# Altium schematic symbol library Diodes.SchLib: 1 symbol
Pins are listed as number, name and electrical type; pins without a type are passive.

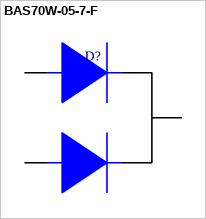
[diagram p0: symbol BAS70W-05-7-F]

## BAS70W-05-7-F
designator D?, comment Diode, Dual Schottky, SC70  (value not drawn)
BAS70W Series 70 V 70 mA Surface Mount Schottky Barrier Diode - SOT-323; Manufacturer: Diodes; Manufacturer Part Number: BAS70W-05-7-F; Element Configuration: Common Cathode; Forward Current: 70mA; Reverse Recovery Time: 5ns; Max Repetitive Reverse Voltage (Vrrm): 70V; Peak Non-Repetitive Surge Current: 100mA; Max Power Dissipation: 200mW; Forward Voltage: 1V; Max Reverse Current: 100nA; Capacitance: 2pF; Supplier 1: Digi-Key; Stock 1: 289; Pricing 1: 1 = 0.39000, 10 = 0.32300, 100 = 0.17120, 500 = 0.11262, 1000 = 0.07658 (USD); RoHS: Yes; Mount: Surface Mount; Case/Package: SOT-323; Number of Pins: 3; Weight: 0.000212oz; Contact Plating: Tin,Matte; Min Operating Temperature: -55°C; Max Operating Temperature: 125°C; Packaging: Tape and Reel; Package Quantity: 3000; Average Rectified Current: 70mA; Max Forward Surge Current (Ifsm): 100mA; Power Dissipation: 200mW; Termination: SMD/SMT; Current Rating: 70mA; Power Rating: 200mW; Voltage Rating (DC): 70V; Max Reverse Voltage (DC): 70V; Series: -; Length: 2.2mm; Width: 1.35mm; Height: 1mm; Radiation Hardening: No; Lead Free: Lead Free; RoHS Compliant: Yes; ComponentLink1URL: https://datasheet.ciiva.com/8303/ds30113-8303106.pdf?src-supplier=Avnet; ComponentLink1Description: https://datasheet.ciiva.com/8303/ds30113-8303106.pdf?src-supplier=Avnet; ComponentLink2URL: https://datasheet.ciiva.com/4715/ds30113-42118-4715778.pdf?src-supplier=Mouser; ComponentLink2Description: https://datasheet.ciiva.com/4715/ds30113-42118-4715778.pdf?src-supplier=Mouser; ComponentLink3URL: https://datasheet.ciiva.com/16574/ds30113-16574275.pdf?src-supplier=Avnet+Europe; ComponentLink3Description: https://datasheet.ciiva.com/16574/ds30113-16574275.pdf?src-supplier=Avnet+Europe; ComponentLink4URL: https://datasheet.ciiva.com/6388/ds30113-6388462.pdf?src-supplier=Digi-Key; ComponentLink4Description: https://datasheet.ciiva.com/6388/ds30113-6388462.pdf?src-supplier=Digi-Key; Supplier Part Number 1: BAS70W-05FDICT-ND
footprint Diode, dual shottky (SOT23, 3-Leads, Body 2.00x2.10mm, Pitch 0.65mm, IPC Medium Density)
pins: 1, 2, 3